# Altium schematic symbol library SI2323DS.SchLib: 1 symbol
Pins are listed as number, name and electrical type; pins without a type are passive.

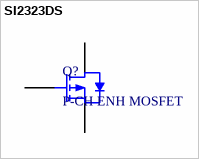
[diagram p0: symbol SI2323DS]

## SI2323DS
designator Q?, comment P-CH ENH MOSFET
Supplier 1: Digi-Key; Supplier Part Number 1: SI2323DS-T1-GE3CT-ND
footprint DIOD-SOT23-3_A_V (SOT23, 3-Leads, Body 3x1.40mm, Pitch 0.915mm)
pins: 1 G "gate", 2 S "source", 3 D "drain"